# EAGLE library part 251-107 (library con-wago_251)
Serie 251, Kombi-Leiterplatten-Klemmenblock mit IDC-Kontakt / Series 251, Combi PCB terminal block with IDC contact Polzahl / Pole No.: 7 Rastermaß / Pitch: 3.5 mm Bemessungsspannung / Rated Voltage: 500 V Nennstrom / Nominal Current: 2 A Leiterquerschnitt / Conductor Size: 0.5 - 1.5 mm² Anschlusstechnik / Connection Technology: PUSH WIRE® Lötstiftlänge: / Solder Pin Length: 3.6 mm Leitereinführung (zur Platine) / Conductor entry angle (to PCB): 0 ° Farbe / Color: weiß / white Stand: 01.01.2012. Die jeweils aktuellen Daten zu diesem Artikel finden Sie in unserem Produktkatalog, den Sie unter www.wago.com einsehen können. As of: 01/01/2012. Please find the newest data for this article in our product catalogue, which can be viewed under www.wago.com.
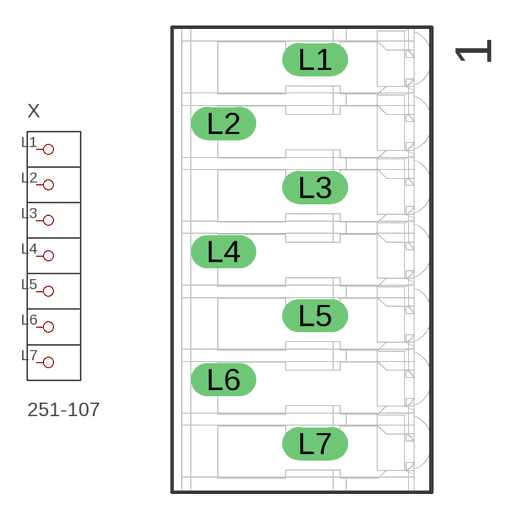
[diagram p1: symbol with the pads of P-251-107; footprint P-251-107]

Designator prefix X

## 251-107  [P-251-107]
L1  P1
L2  P2
L3  P3
L4  P4
L5  P5
L6  P6
L7  P7

## Footprint P-251-107 (pad centres in mm)
drill 1.2 long: L1 0.7,10.95; L2 -4.3,7.45; L3 0.7,3.95; L4 -4.3,0.45; L5 0.7,-3.05; L6 -4.3,-6.55; L7 0.7,-10.05